# EAGLE library part TPS54292 (library My_TI)
TPS5429x 1.5-A/2.5-A Dual, Fully-Synchronous Buck Converter With Integrated MOSFET. • 4.5 V to 18 V Input Range – TPS54290 – 300 kHz – TPS54291 – 600 kHz – TPS54292 – 1.2 MHz • 0.8 VREF With 1% Accuracy (0°C to 85°C) Datasheet <http://www.ti.com/lit/ds/symlink/tps54290.pdf>
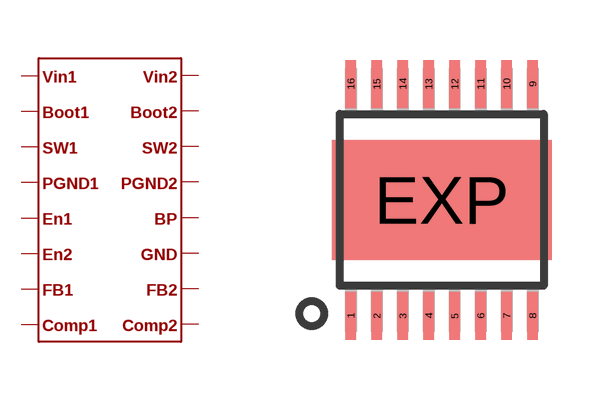
[diagram p50: symbol with the pads of HTSSOP16PWP; footprint HTSSOP16PWP]

Designator prefix DC/DC

## TPS54292  [HTSSOP16PWP]
1  P$1
2  P$2
3  P$3
4  P$4
5  P$5
6  P$6
7  P$7
8  P$8
9  P$9
10  P$10
11  P$11
12  P$12
13  P$13
14  P$14
15  P$15
16  P$16
EXP  P$11

## Footprint HTSSOP16PWP (pad centres in mm)
TPS40055PWP (R-PDSO-G**) PowerPAD (TM) 16 pol. PLASTIC SMALL-OUTLINE PACKAGE Source: www.ti.com ... TPS40055 package.pdf & slma002.pdf
smd 0.27 x 1.2: 1 -2.275,-2.9; 2 -1.625,-2.9; 3 -0.975,-2.9; 4 -0.325,-2.9; 5 0.325,-2.9; 6 0.975,-2.9; 7 1.625,-2.9; 8 2.275,-2.9; 9 2.275,2.9; 10 1.625,2.9; 11 0.975,2.9; 12 0.325,2.9; 13 -0.325,2.9; 14 -0.975,2.9; 15 -1.625,2.9; 16 -2.275,2.9
smd 5.5 x 3: EXP 0,0